# Altium integrated library Altera Cyclone III.IntLib: 225 symbols (part 26 of 46)
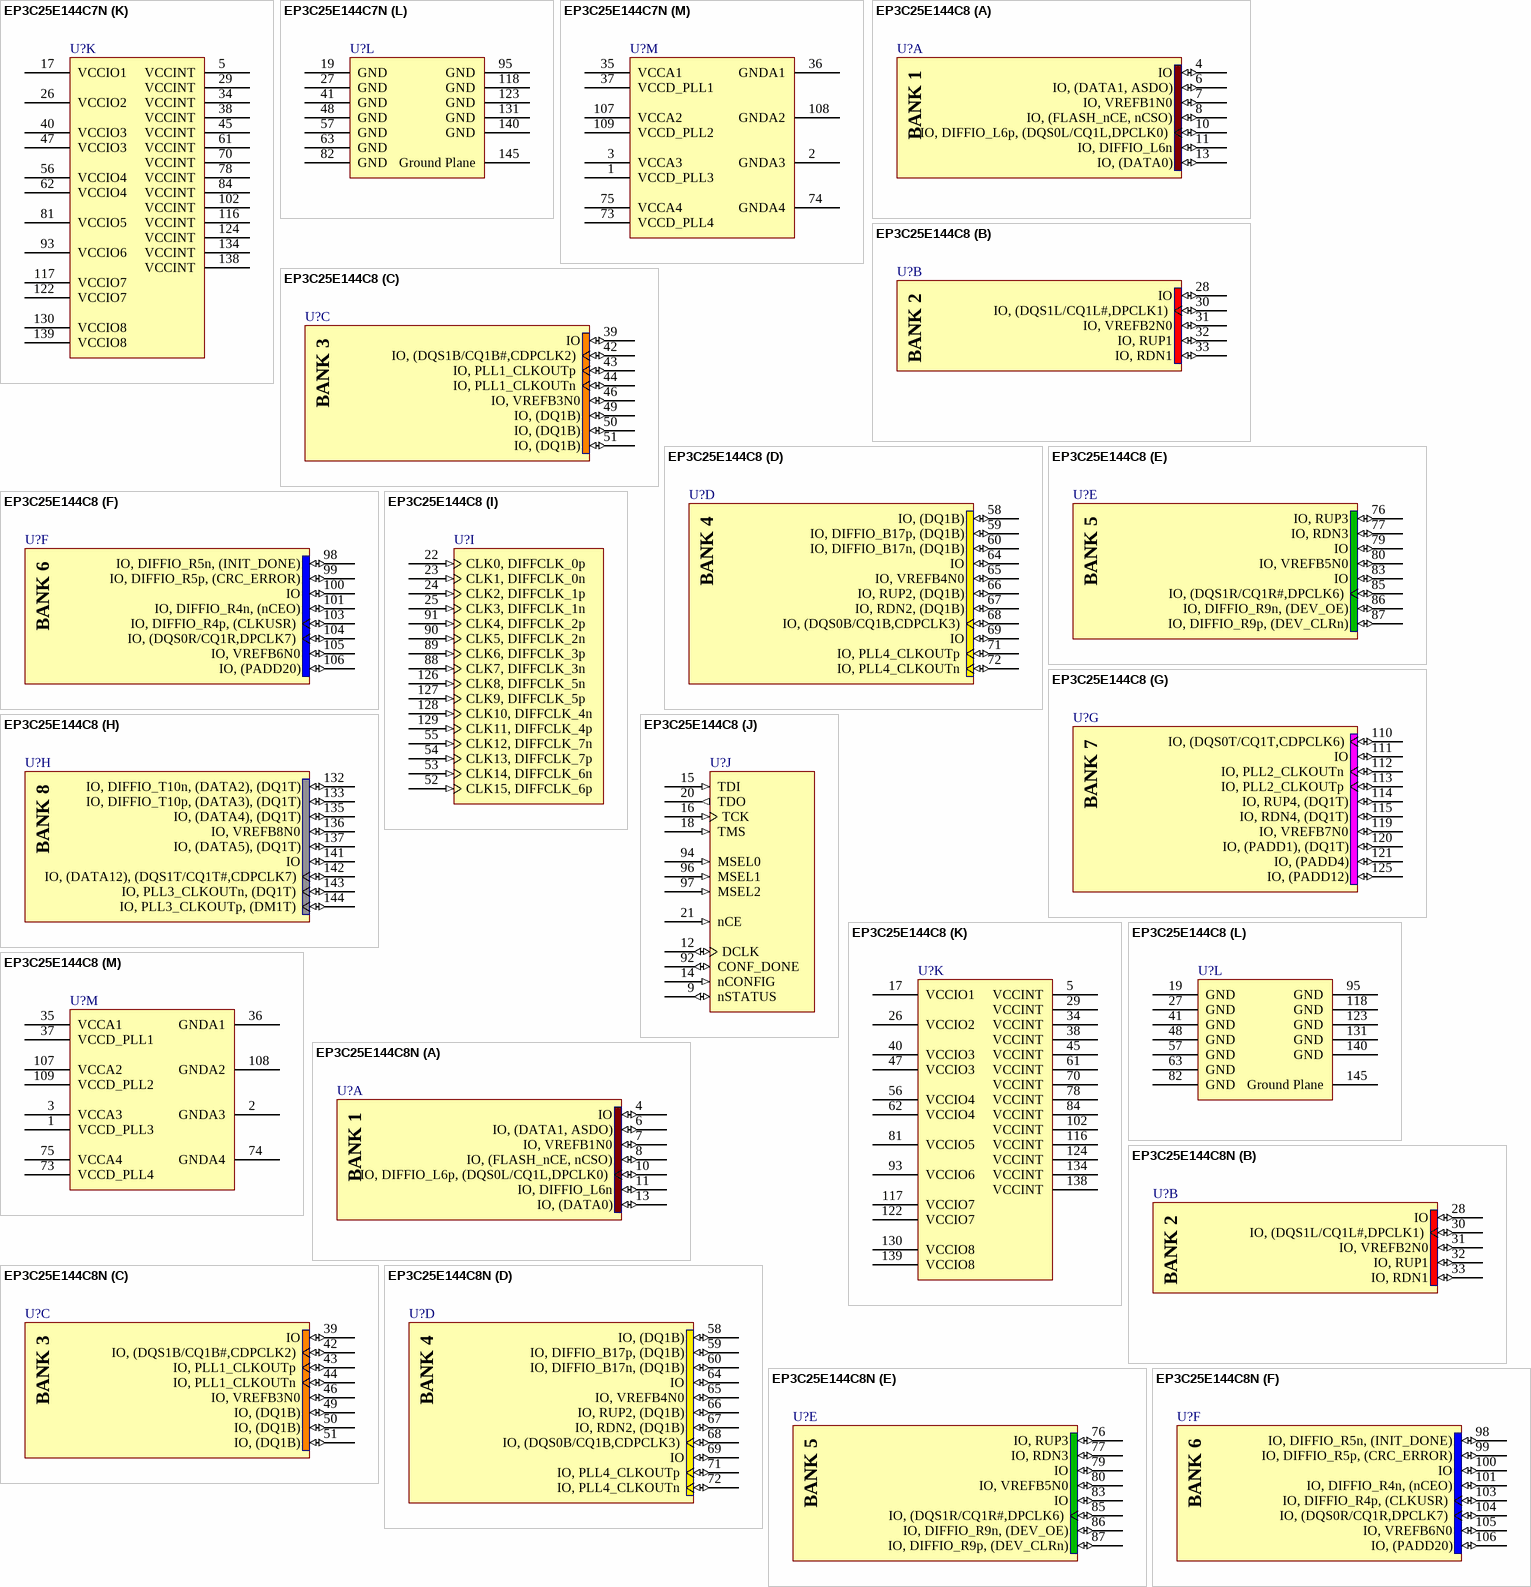
[diagram p515: symbols EP3C25E144C7N to EP3C25E144C8N]

## EP3C25E144C8
designator U?
Cyclone III Family FPGA, 82 I/O Pins, 4 PLLs, 144-Pin EQFP, Speed Grade 8, Commercial Grade; Note: Exposed pad at the bottom of this package must be connected to PCB GND.; DatasheetVersion: ver2.0, May-2008; PackageVersion: ver16.0, Dec-2009; PackageReference: EQFP144; PackageDescription: 144-Pin Plastic Enhanced Quad Flat Pack (EQFP144) - Wire Bond; Code_JEDEC: MS-026-BFB; ComponentLink1Description: Manufacturer URL; ComponentLink1URL: http://www.altera.com/; ComponentLink2Description: Handbook (7.86MB); ComponentLink2URL: http://www.altera.com/literature/hb/cyc3/cyclone3_handbook.pdf; ComponentLink3Description: Package Specification; ComponentLink3URL: http://www.altera.com/literature/ds/dspkg.pdf
footprint EQFP144_N (Thin QFP, 144-Leads, Body 20x20mm, Pitch 0.5mm, IPC Medium Density)
footprint EQFP144_L (Thin QFP, 144-Leads, Body 20x20mm, Pitch 0.5mm, IPC High Density)
footprint EQFP144_M (Thin QFP, 144-Leads, Body 20x20mm, Pitch 0.5mm, IPC Low Density)
part A pins: 4 IO (io), 6 IO, (DATA1, ASDO) (io), 7 IO, VREFB1N0 (io), 8 IO, (FLASH_nCE, nCSO) (io), 10 IO, DIFFIO_L6p, (DQS0L/CQ1L,DPCLK0) (io), 11 IO, DIFFIO_L6n (io), 13 IO, (DATA0) (io)
part B pins: 28 IO (io), 30 IO, (DQS1L/CQ1L#,DPCLK1) (io), 31 IO, VREFB2N0 (io), 32 IO, RUP1 (io), 33 IO, RDN1 (io)
part C pins: 39 IO (io), 42 IO, (DQS1B/CQ1B#,CDPCLK2) (io), 43 IO, PLL1_CLKOUTp (io), 44 IO, PLL1_CLKOUTn (io), 46 IO, VREFB3N0 (io), 49 IO, (DQ1B) (io), 50 IO, (DQ1B) (io), 51 IO, (DQ1B) (io)
part D pins: 58 IO, (DQ1B) (io), 59 IO, DIFFIO_B17p, (DQ1B) (io), 60 IO, DIFFIO_B17n, (DQ1B) (io), 64 IO (io), 65 IO, VREFB4N0 (io), 66 IO, RUP2, (DQ1B) (io), 67 IO, RDN2, (DQ1B) (io), 68 IO, (DQS0B/CQ1B,CDPCLK3) (io), 69 IO (io), 71 IO, PLL4_CLKOUTp (io), 72 IO, PLL4_CLKOUTn (io)
part E pins: 76 IO, RUP3 (io), 77 IO, RDN3 (io), 79 IO (io), 80 IO, VREFB5N0 (io), 83 IO (io), 85 IO, (DQS1R/CQ1R#,DPCLK6) (io), 86 IO, DIFFIO_R9n, (DEV_OE) (io), 87 IO, DIFFIO_R9p, (DEV_CLRn) (io)
part F pins: 98 IO, DIFFIO_R5n, (INIT_DONE) (io), 99 IO, DIFFIO_R5p, (CRC_ERROR) (io), 100 IO (io), 101 IO, DIFFIO_R4n, (nCEO) (io), 103 IO, DIFFIO_R4p, (CLKUSR) (io), 104 IO, (DQS0R/CQ1R,DPCLK7) (io), 105 IO, VREFB6N0 (io), 106 IO, (PADD20) (io)
part G pins: 110 IO, (DQS0T/CQ1T,CDPCLK6) (io), 111 IO (io), 112 IO, PLL2_CLKOUTn (io), 113 IO, PLL2_CLKOUTp (io), 114 IO, RUP4, (DQ1T) (io), 115 IO, RDN4, (DQ1T) (io), 119 IO, VREFB7N0 (io), 120 IO, (PADD1), (DQ1T) (io), 121 IO, (PADD4) (io), 125 IO, (PADD12) (io)
part H pins: 132 IO, DIFFIO_T10n, (DATA2), (DQ1T) (io), 133 IO, DIFFIO_T10p, (DATA3), (DQ1T) (io), 135 IO, (DATA4), (DQ1T) (io), 136 IO, VREFB8N0 (io), 137 IO, (DATA5), (DQ1T) (io), 141 IO (io), 142 IO, (DATA12), (DQS1T/CQ1T#,CDPCLK7) (io), 143 IO, PLL3_CLKOUTn, (DQ1T) (io), 144 IO, PLL3_CLKOUTp, (DM1T) (io)
part I pins: 22 CLK0, DIFFCLK_0p (in), 23 CLK1, DIFFCLK_0n (in), 24 CLK2, DIFFCLK_1p (in), 25 CLK3, DIFFCLK_1n (in), 52 CLK15, DIFFCLK_6p (in), 53 CLK14, DIFFCLK_6n (in), 54 CLK13, DIFFCLK_7p (in), 55 CLK12, DIFFCLK_7n (in), 88 CLK7, DIFFCLK_3n (in), 89 CLK6, DIFFCLK_3p (in), 90 CLK5, DIFFCLK_2n (in), 91 CLK4, DIFFCLK_2p (in), 126 CLK8, DIFFCLK_5n (in), 127 CLK9, DIFFCLK_5p (in), 128 CLK10, DIFFCLK_4n (in), 129 CLK11, DIFFCLK_4p (in)
part J pins: 9 nSTATUS (io), 12 DCLK (io), 14 nCONFIG (in), 15 TDI (in), 16 TCK (in), 18 TMS (in), 20 TDO (out), 21 nCE (in), 92 CONF_DONE (io), 94 MSEL0 (in), 96 MSEL1 (in), 97 MSEL2 (in)
part K pins: 5 VCCINT (power), 17 VCCIO1 (power), 26 VCCIO2 (power), 29 VCCINT (power), 34 VCCINT (power), 38 VCCINT (power), 40 VCCIO3 (power), 45 VCCINT (power), 47 VCCIO3 (power), 56 VCCIO4 (power), 61 VCCINT (power), 62 VCCIO4 (power), 70 VCCINT (power), 78 VCCINT (power), 81 VCCIO5 (power), 84 VCCINT (power), 93 VCCIO6 (power), 102 VCCINT (power), 116 VCCINT (power), 117 VCCIO7 (power), 122 VCCIO7 (power), 124 VCCINT (power), 130 VCCIO8 (power), 134 VCCINT (power), 138 VCCINT (power), 139 VCCIO8 (power)
part L pins: 19 GND (power), 27 GND (power), 41 GND (power), 48 GND (power), 57 GND (power), 63 GND (power), 82 GND (power), 95 GND (power), 118 GND (power), 123 GND (power), 131 GND (power), 140 GND (power), 145 Ground Plane (power)
part M pins: 1 VCCD_PLL3 (power), 2 GNDA3 (power), 3 VCCA3 (power), 35 VCCA1 (power), 36 GNDA1 (power), 37 VCCD_PLL1 (power), 73 VCCD_PLL4 (power), 74 GNDA4 (power), 75 VCCA4 (power), 107 VCCA2 (power), 108 GNDA2 (power), 109 VCCD_PLL2 (power)
part A text: BANK 1
part B text: BANK 2
part C text: BANK 3
part D text: BANK 4
part E text: BANK 5
part F text: BANK 6
part G text: BANK 7
part H text: BANK 8

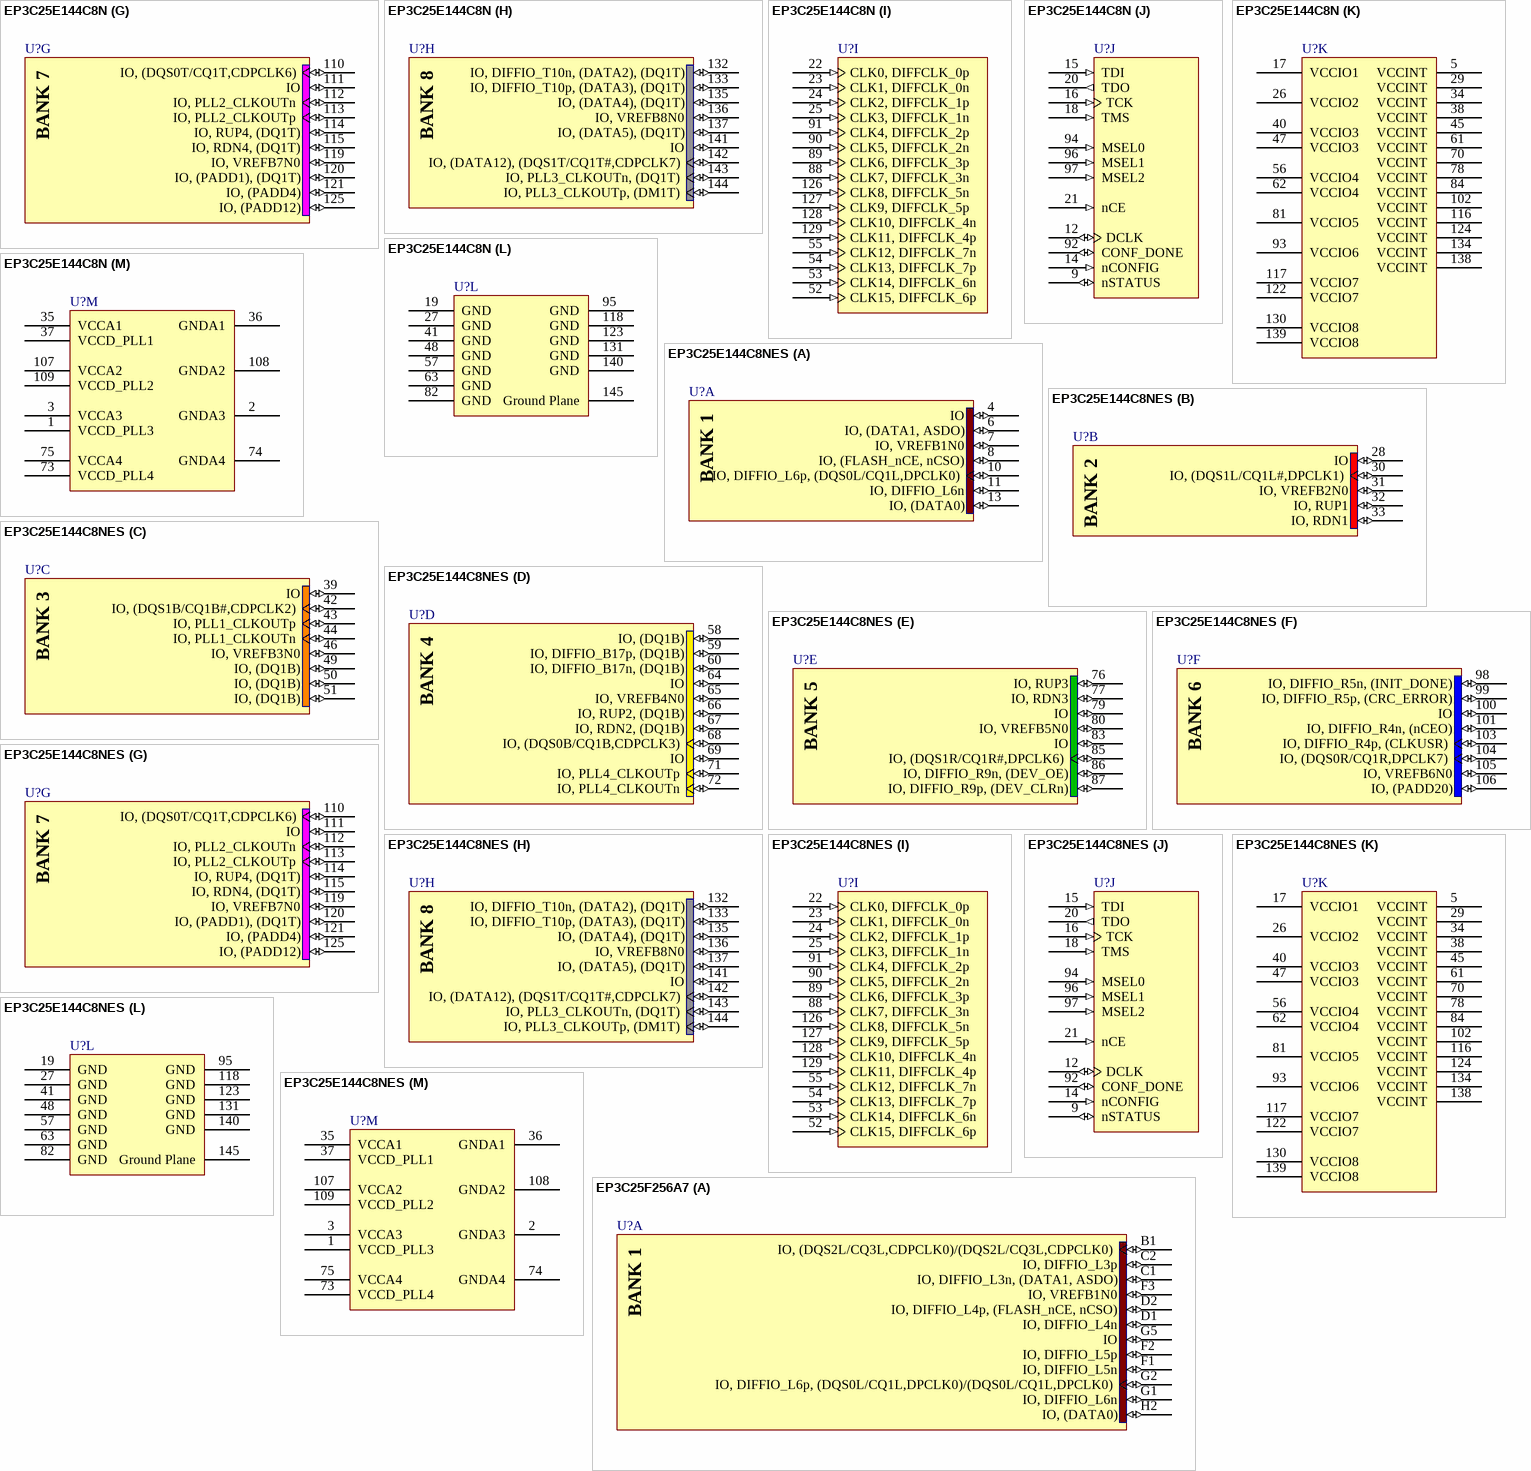
[diagram p128: symbols EP3C25E144C8N to EP3C25F256A7]